# EAGLE library part S-ENC (library snes_mb)
Video Encoder
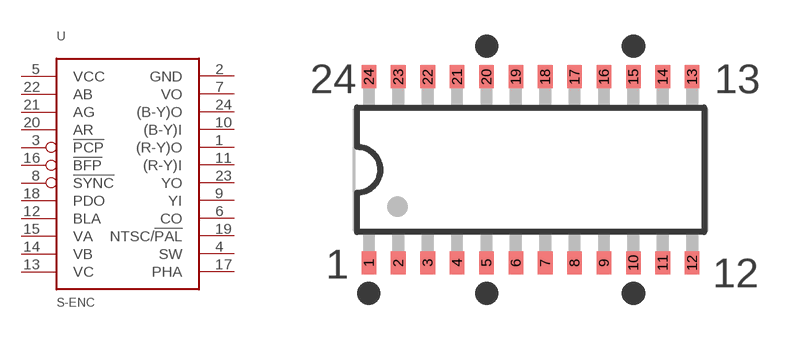
[diagram p11: symbol with the pads of SO24; footprint SO24]

Designator prefix U

## S-ENC  [SO24]
1  (R-Y)O
2  GND  pwr
3  !PCP
4  SW
5  VCC  pwr
6  CO
7  VO
8  !SYNC
9  YI
10  (B-Y)I
11  (R-Y)I
12  BLA
13  VC
14  VB
15  VA
16  !BFP
17  PHA
18  PDO
19  NTSC/!PAL
20  AR
21  AG
22  AB
23  YO
24  (B-Y)O

## Footprint SO24 (pad centres in mm)
smd 0.635 x 1: 1 -6.985,-4.025; 2 -5.715,-4.025; 3 -4.445,-4.025; 4 -3.175,-4.025; 5 -1.905,-4.025; 6 -0.635,-4.025; 7 0.635,-4.025; 8 1.905,-4.025; 9 3.175,-4.025; 10 4.445,-4.025; 11 5.715,-4.025; 12 6.985,-4.025; 13 6.985,4.025; 14 5.715,4.025; 15 4.445,4.025; 16 3.175,4.025; 17 1.905,4.025; 18 0.635,4.025; 19 -0.635,4.025; 20 -1.905,4.025; 21 -3.175,4.025; 22 -4.445,4.025; 23 -5.715,4.025; 24 -6.985,4.025